# Altium footprint library controle de luminosidade com ESP32.PcbLib: 22 footprints (part 1 of 2)
Each footprint in its own frame and in the unit in brackets; x right, y up, seen from the top. Pads: shape width x height; smd on the part's side, far side on the other; paste and mask are expansions set on the pad; w line width, h text height; cw(c..) or ccw(c..) is an arc to the next point about the centre after c.
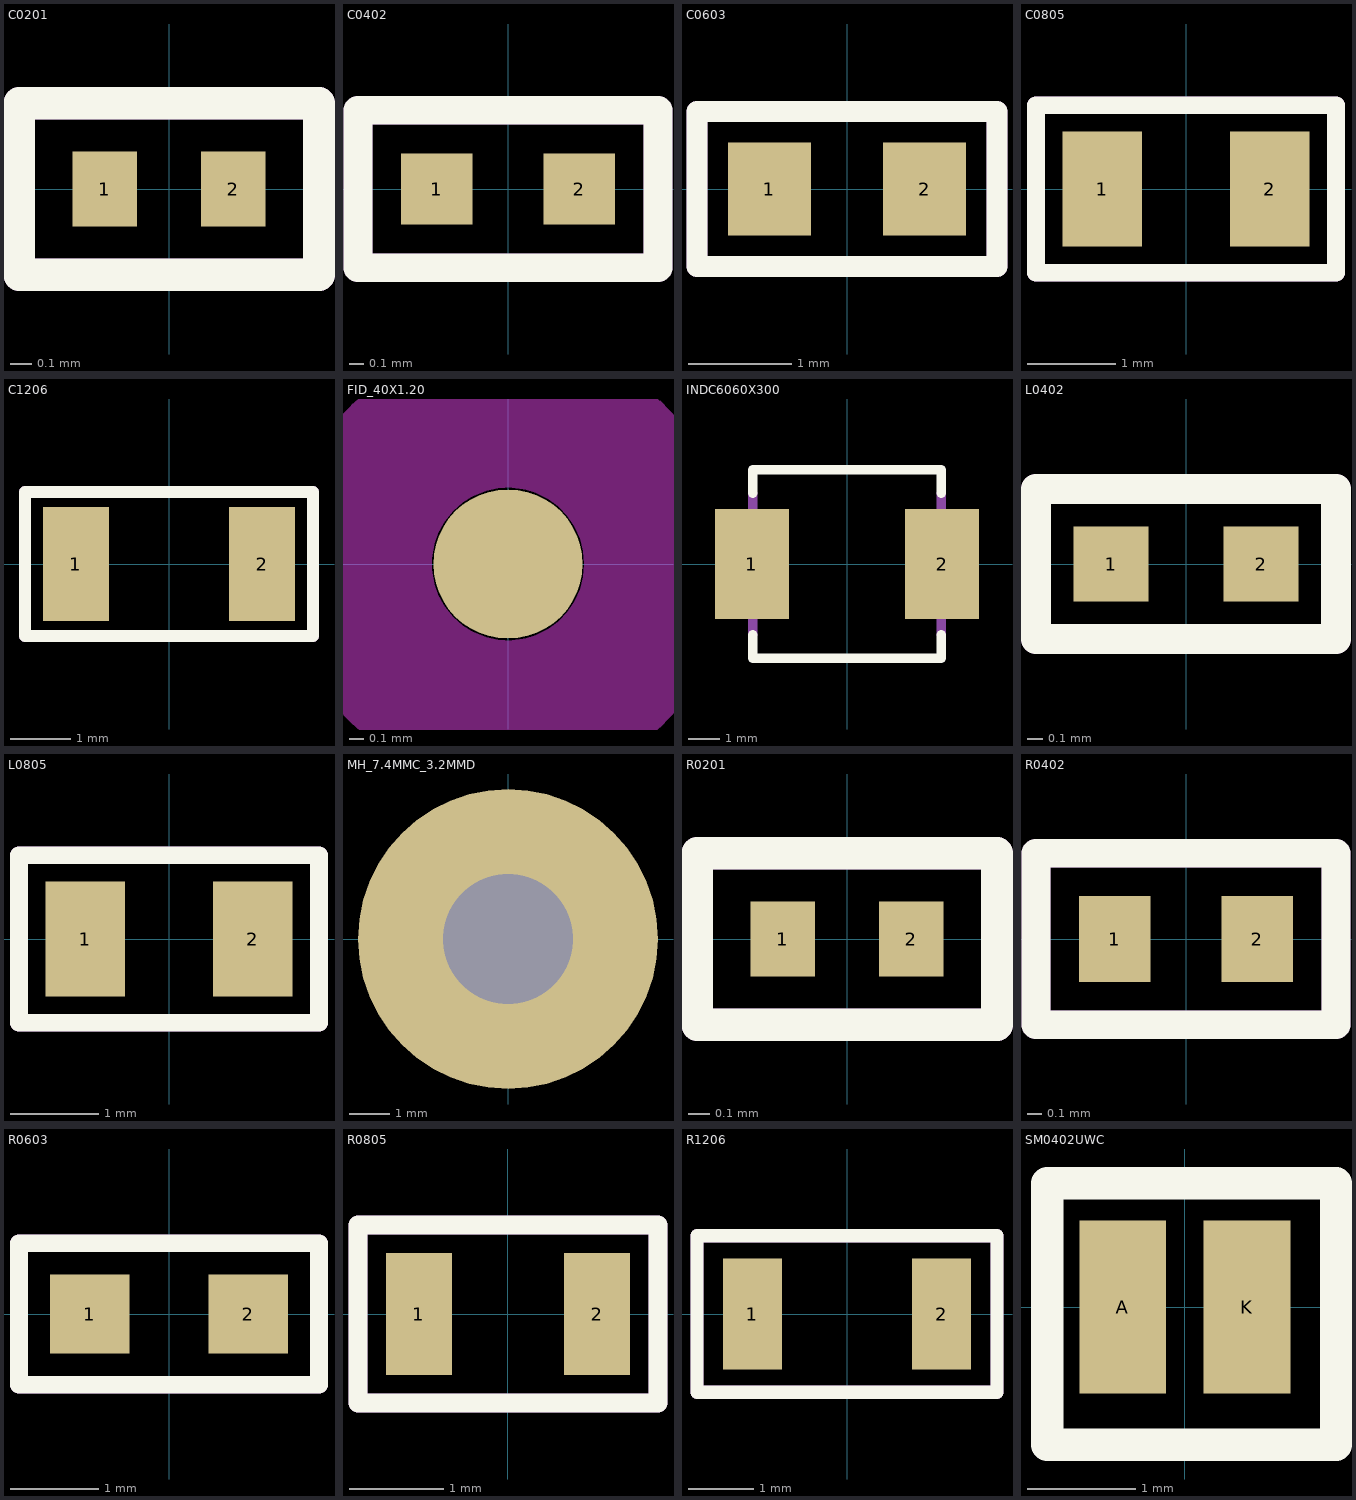
[diagram p0: the footprints below, top view; thin cyan lines are the x and y axes]

## C0201 [mm]
pads (2):
  rect 0.3x0.35 smd mask+0.06: 1(-0.3,0) 2(0.3,0)
Top Overlay:
  lines w0.15: -0.7,-0.4 -0.7,0.4 0.7,0.4 0.7,-0.4 -0.7,-0.4
Mechanical 29:
  lines w0.15: -0.7,-0.4 0.7,-0.4 0.7,0.4 -0.7,0.4 -0.7,-0.4
  text "'.Designator'" at -0.4,-0.1 h0.2
3D body "C0201.step": height 0.3, standoff 0, extent -0.3,-0.15 0.3,0.15

## C0402 [mm]
pads (2):
  rect 0.5x0.5 smd: 1(-0.5,0) 2(0.5,0)
Top Overlay:
  lines w0.2: -1.05,-0.55 1.05,-0.55 1.05,0.55 -1.05,0.55 -1.05,-0.55
Mechanical 29:
  lines w0.2: -1.05,-0.55 -1.05,0.55 1.05,0.55 1.05,-0.55 -1.05,-0.55
  text "'.Designator'" at -0.717,-0.25 h0.5
3D body "C0402.step": height 0.51, standoff 0.01, extent -0.5,-0.25 0.5,0.25

## C0603 [mm]
pads (2):
  rect 0.8x0.9 smd: 1(-0.75,0) 2(0.75,0)
Top Overlay:
  lines w0.2: -1.45,-0.75 -1.45,0.75 1.45,0.75 1.45,-0.75 -1.45,-0.75
Mechanical 29:
  lines w0.2: -1.45,-0.75 -1.45,0.75 1.45,0.75 1.45,-0.75 -1.45,-0.75
  text "'.Designator'" at -0.7,-0.3 h0.6
3D body "C0603.step": height 0.81, standoff 0.01, extent -0.8,-0.43 0.8,0.43

## C0805 [mm]
pads (2):
  rect 0.9x1.3 smd: 1(-0.95,0) 2(0.95,0)
Top Overlay:
  lines w0.2: -1.7,-0.95 1.7,-0.95 1.7,0.95 -1.7,0.95 -1.7,-0.95
Mechanical 29:
  lines w0.2: -1.7,-0.95 -1.7,0.95 1.7,0.95 1.7,-0.95 -1.7,-0.95
  text "'.Designator'" at -1.2,-0.4 h0.85
3D body "C0805.step": height 1, standoff 0, extent -1,-0.625 1,0.625

## C1206 [mm] "Chip Capacitor, 2-Leads, Body 3.20x1.60mm, IPC Medium Density"
height 0.95
pads (2):
  rect 1.1x1.9 smd: 1(-1.55,0) 2(1.55,0)
Top Overlay:
  lines w0.2: -2.4,-1.2 -2.4,1.2 2.4,1.2 2.4,-1.2 -2.4,-1.2
Mechanical 29:
  lines w0.2: -2.4,-1.2 2.4,-1.2 2.4,1.2 -2.4,1.2 -2.4,-1.2
  text "'.Designator'" at -1.4,-0.5 h1
3D body "C1206.step": height 0.95, standoff 0, extent -1.7,-0.9 1.7,0.9

## FID_40X1.20 [mil]
pads (1):
  round 40 smd paste-40 mask+40: ""(0,0)
Top Layer keep-out:
  circle w39.37: c0,0 r40.16

## INDC6060X300 [mm]
pads (2):
  rect 2.35x3.5 smd: 1(-3.025,0) 2(3.025,0)
Top Overlay:
  lines w0.305: -3,-2.25 -3,-3 3,-3 3,-2.25 ; -3,2.25 -3,3 3,3 3,2.25
Mechanical 1:
  region: 3.5,-1.252 3.004,-1.252 3.004,1.25 3.5,1.25
  region: -3,-1.25 -3.5,-1.25 -3.5,1.25 -3,1.25
  lines w0.305: -3,-2.25 -3,2.25 ; 3,-2.25 3,2.25
Mechanical 29:
  text "'.Designator'" at -2.794,-0.381 h1

## L0402 [mm]
pads (2):
  rect 0.5x0.5 smd: 1(-0.5,0) 2(0.5,0)
Top Overlay:
  lines w0.2: -1,-0.5 1,-0.5 1,0.5 -1,0.5 -1,-0.5
Mechanical 29:
  lines w0.2: -1,-0.5 -1,0.5 1,0.5 1,-0.5 -1,-0.5
  text "'.Designator'" at -0.75,-0.169 h0.5
3D body "L0805.step": height 0.51, standoff 0.01, extent -0.5,-0.3 0.5,0.3

## L0805 [mm]
pads (2):
  rect 0.9x1.3 smd: 1(-0.95,0) 2(0.95,0)
Top Overlay:
  lines w0.2: -1.7,-0.95 1.7,-0.95 1.7,0.95 -1.7,0.95 -1.7,-0.95
Mechanical 29:
  lines w0.2: -1.7,-0.95 -1.7,0.95 1.7,0.95 1.7,-0.95 -1.7,-0.95
  text "'.Designator'" at -1.3,-0.4 h0.85
3D body "L0805.step": height 1.05, standoff 0, extent -1,-0.625 1,0.625

## MH_7.4MMC_3.2MMD [mm]
pads (1):
  round 7.4 hole 3.2: ""(0,0)

## R0201 [mm]
pads (2):
  rect 0.3x0.35 smd mask+0.06: 1(-0.3,0) 2(0.3,0)
Top Overlay:
  lines w0.15: -0.7,-0.4 0.7,-0.4 0.7,0.4 -0.7,0.4 -0.7,-0.4
Mechanical 29:
  lines w0.15: -0.7,-0.4 -0.7,0.4 0.7,0.4 0.7,-0.4 -0.7,-0.4
  text "'.Designator'" at -0.4,-0.1 h0.2
3D body "C0201.step": height 0.3, standoff 0, extent -0.3,-0.15 0.3,0.15

## R0402 [mm]
pads (2):
  rect 0.5x0.6 smd: 1(-0.5,0) 2(0.5,0)
Top Overlay:
  lines w0.2: -1.05,-0.6 -1.05,0.6 1.05,0.6 1.05,-0.6 -1.05,-0.6
Mechanical 29:
  lines w0.2: -1.05,-0.6 -1.05,0.6 1.05,0.6 1.05,-0.6 -1.05,-0.6
  text "'.Designator'" at -0.75,-0.223 h0.5
3D body "R0402.step": height 0.41, standoff 0.01, extent -0.5,-0.25 0.5,0.25

## R0603 [mm]
height 0.9
pads (2):
  rect 0.9x0.9 smd: 1(-0.9,0) 2(0.9,0)
Top Overlay:
  lines w0.2: -1.7,-0.8 1.7,-0.8 1.7,0.8 -1.7,0.8 -1.7,-0.8
Mechanical 29:
  lines w0.2: -1.7,-0.8 -1.7,0.8 1.7,0.8 1.7,-0.8 -1.7,-0.8
  text "'.Designator'" at -1.3,-0.4 h0.8
3D body "R0603.stp": height 0.46, standoff 0.01, extent -0.775,-0.4 0.775,0.4

## R0805 [mm]
pads (2):
  rect 0.7x1.3 smd: 1(-0.95,0) 2(0.95,0)
Top Overlay:
  lines w0.2: -1.6,-0.95 1.6,-0.95 1.6,0.95 -1.6,0.95 -1.6,-0.95
Mechanical 29:
  lines w0.2: -1.6,-0.95 1.6,-0.95 1.6,0.95 -1.6,0.95 -1.6,-0.95
  text "'.Designator'" at -0.6,-0.347 h0.85
3D body "R0805.step": height 0.61, standoff 0.01, extent -1,-0.6 1,0.6

## R1206 [mm]
pads (2):
  rect 0.9x1.7 smd: 1(-1.45,0) 2(1.45,0)
Top Overlay:
  lines w0.2: -2.3,-1.2 -2.3,1.2 2.3,1.2 2.3,-1.2 -2.3,-1.2
Mechanical 29:
  lines w0.2: -2.3,-1.2 2.3,-1.2 2.3,1.2 -2.3,1.2 -2.3,-1.2
  text "'.Designator'" at -1.5,-0.5 h1
3D body "R1206.stp": height 0.56, standoff 0.01, extent -1.6,-0.8 1.6,0.8

## SM0402UWC [mm]
pads (2):
  rect 0.8x1.6 smd: A(-0.575,0) K(0.575,0)
Top Overlay:
  lines w0.3: -1.27,-1.27 0.395,-1.27 1.397,-1.27 1.397,1.143 -1.27,1.143 -1.27,-1.27
Mechanical 29:
  text "'.Designator'" at -1.778,-0.889 h1